# Altium schematic symbol library ET4207_DEMO_Library.SchLib: 30 symbols
Pins are listed as number, name and electrical type; pins without a type are passive.

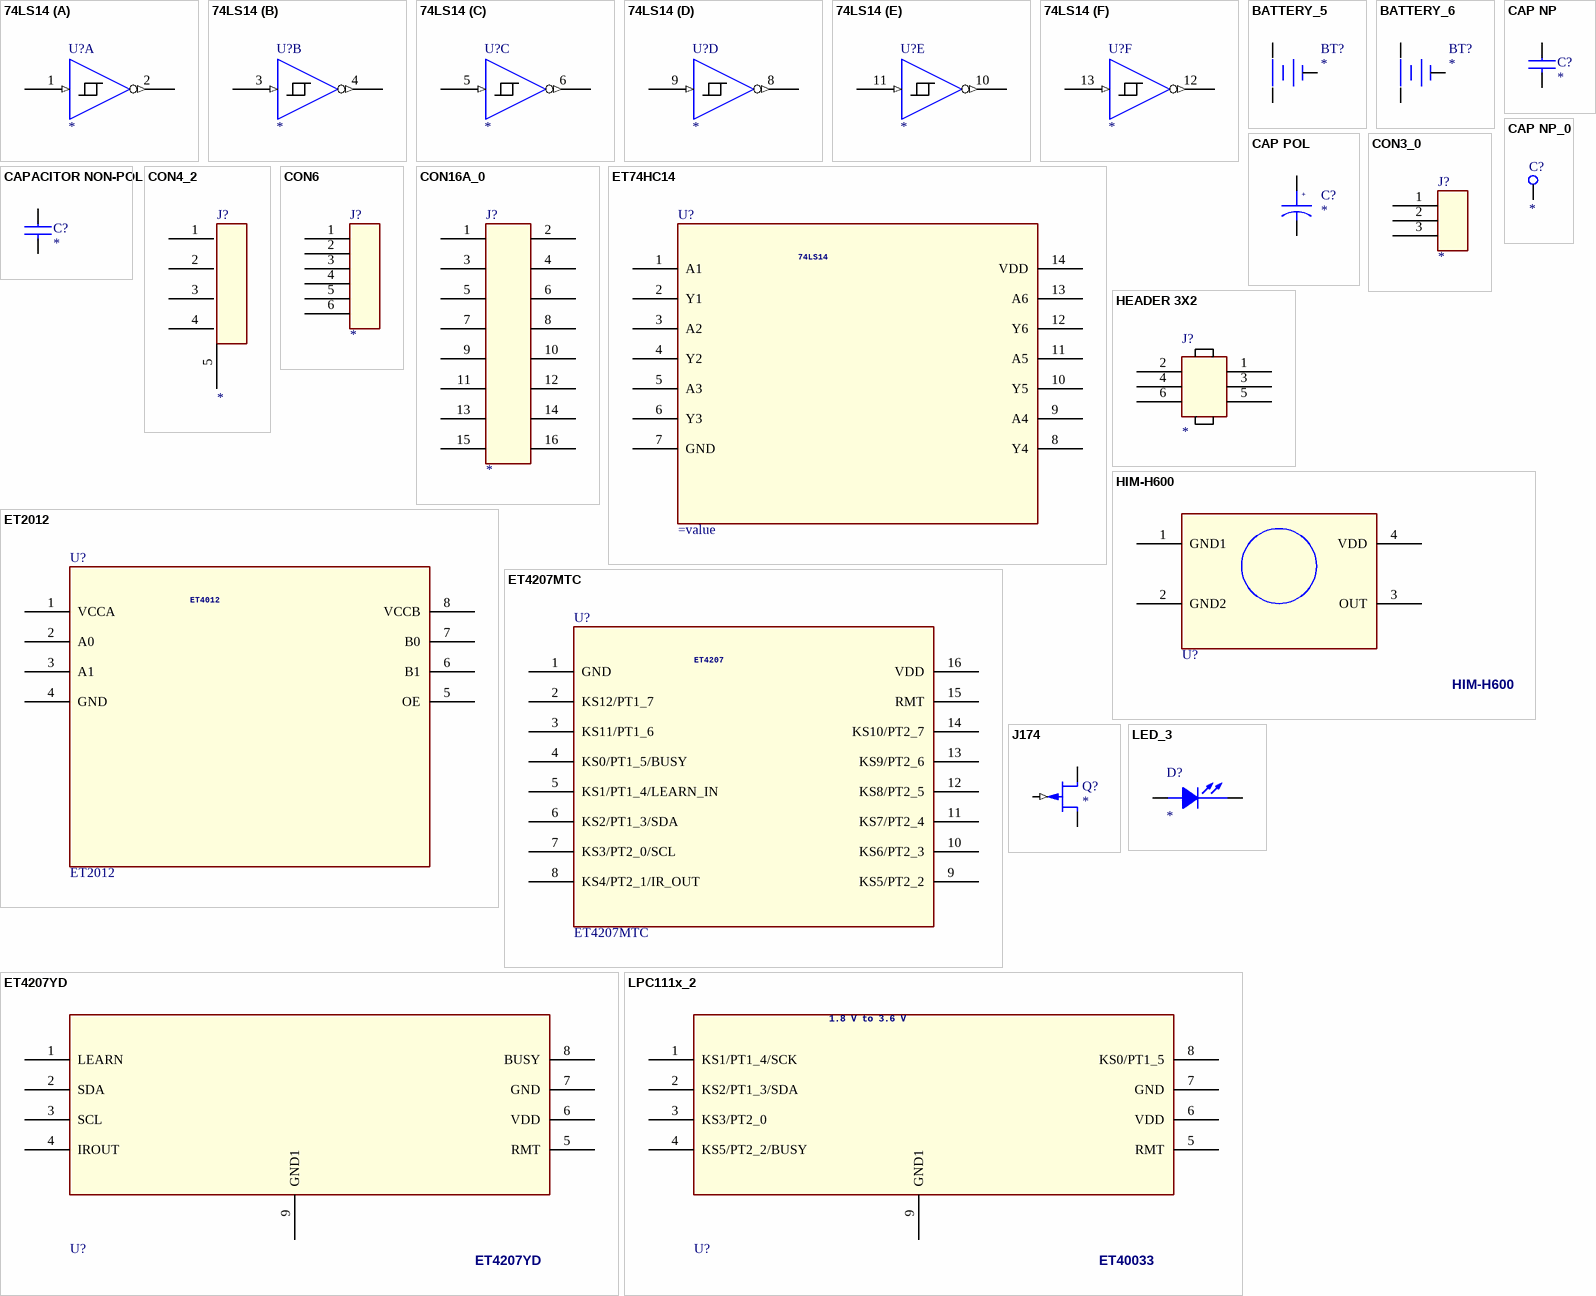
[diagram p0: symbols 74LS14 to LPC111x_2]

## 74LS14
designator U?
part A pins: 1 A (in), 2 Y (out), 7 GND (power) hidden to GND, 14 VCC (power) hidden to VCC
part B pins: 3 A (in), 4 Y (out), 7 GND (power) hidden to GND, 14 VCC (power) hidden to VCC
part C pins: 5 A (in), 6 Y (out), 7 GND (power) hidden to GND, 14 VCC (power) hidden to VCC
part D pins: 7 GND (power) hidden to GND, 8 Y (out), 9 A (in), 14 VCC (power) hidden to VCC
part E pins: 7 GND (power) hidden to GND, 10 Y (out), 11 A (in), 14 VCC (power) hidden to VCC
part F pins: 7 GND (power) hidden to GND, 12 Y (out), 13 A (in), 14 VCC (power) hidden to VCC

## BATTERY_5
designator BT?
pins: 1, 2, 3

## BATTERY_6
designator BT?
pins: 1, 2, 3

## CAP NP
designator C?
pins: 1, 2

## CAP NP_0
designator C?
pins: 1

## CAP POL
designator C?
pins: 1, 2
text: +

## CAPACITOR NON-POL
designator C?
pins: 1, 2

## CON3_0
designator J?
pins: 1 IROUT, 2 GND, 3 VCC

## CON4_2
designator J?
pins: 1, 2, 3, 4, 5

## CON6
designator J?
pins: 1, 2, 3, 4, 5, 6

## CON16A_0
designator J?
pins: 1, 2, 3, 4, 5, 6, 7, 8, 9, 10, 11, 12, 13, 14, 15, 16

## ET74HC14
designator U?
pins: 1 A1, 2 Y1, 3 A2, 4 Y2, 5 A3, 6 Y3, 7 GND, 8 Y4, 9 A4, 10 Y5, 11 A5, 12 Y6, 13 A6, 14 VDD
text: 74LS14

## ET2012
designator U?
pins: 1 VCCA, 2 A0, 3 A1, 4 GND, 5 OE, 6 B1, 7 B0, 8 VCCB
text: ET4012

## ET4207MTC
designator U?
footprint soic-16
pins: 1 GND, 2 KS12/PT1_7, 3 KS11/PT1_6, 4 KS0/PT1_5/BUSY, 5 KS1/PT1_4/LEARN_IN, 6 KS2/PT1_3/SDA, 7 KS3/PT2_0/SCL, 8 KS4/PT2_1/IR_OUT, 9 KS5/PT2_2, 10 KS6/PT2_3, 11 KS7/PT2_4, 12 KS8/PT2_5, 13 KS9/PT2_6, 14 KS10/PT2_7, 15 RMT, 16 VDD
text: ET4207

## ET4207YD
designator U?
footprint QFN-8 (QFN)
pins: 1 LEARN, 2 SDA, 3 SCL, 4 IROUT, 5 RMT, 6 VDD, 7 GND, 8 BUSY, 9 GND1

## HEADER 3X2
designator J?
pins: 1, 2, 3, 4, 5, 6

## HIM-H600
designator U?
pins: 1 GND1, 2 GND2, 3 OUT, 4 VDD

## J174
designator Q?
pins: 1 D, 2 G (in), 3 S

## LED_3
designator D?
pins: 1 ANODE, 2 CATHODE

## LPC111x_2
designator U?, comment ET40033
pins: 1 KS1/PT1_4/SCK, 2 KS2/PT1_3/SDA, 3 KS3/PT2_0, 4 KS5/PT2_2/BUSY, 5 RMT, 6 VDD, 7 GND, 8 KS0/PT1_5, 9 GND1
text: 1.8 V to 3.6 V

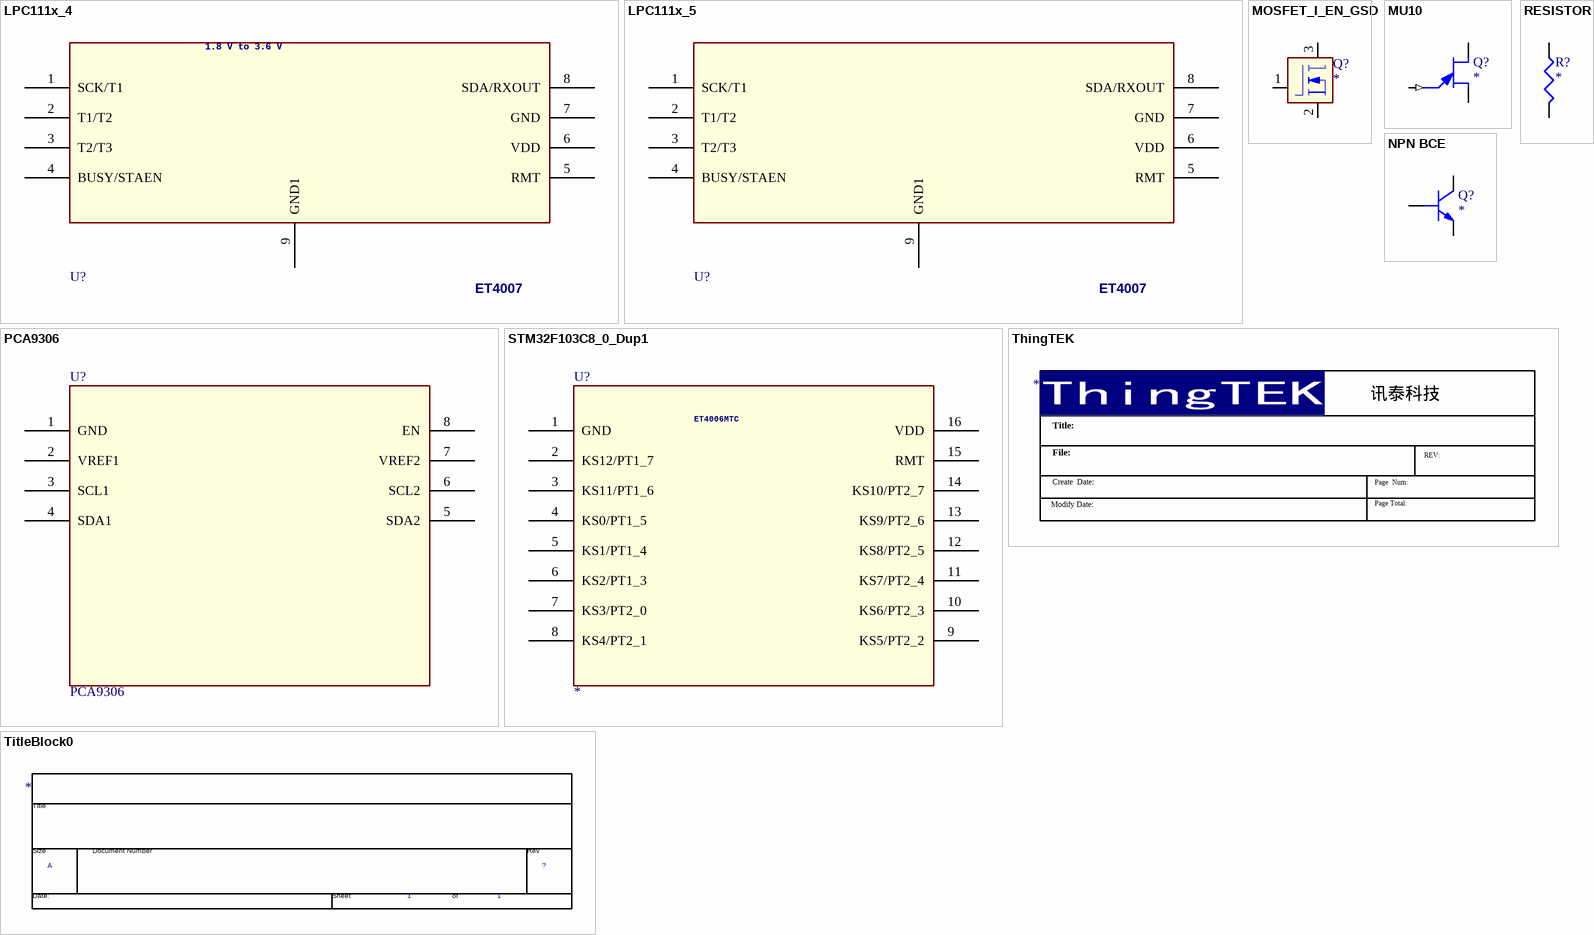
[diagram p1: symbols LPC111x_4 to TitleBlock0]

## LPC111x_4
designator U?, comment ET4007
pins: 1 SCK/T1, 2 T1/T2, 3 T2/T3, 4 BUSY/STAEN, 5 RMT, 6 VDD, 7 GND, 8 SDA/RXOUT, 9 GND1
text: 1.8 V to 3.6 V

## LPC111x_5
designator U?, comment ET4007
pins: 1 SCK/T1, 2 T1/T2, 3 T2/T3, 4 BUSY/STAEN, 5 RMT, 6 VDD, 7 GND, 8 SDA/RXOUT, 9 GND1

## MOSFET_I_EN_GSD
designator Q?
pins: 1 G, 2 S, 3 D

## MU10
designator Q?
pins: 1 BASE1, 2 E (in), 3 BASE2

## NPN BCE
designator Q?
PspiceTemplate: Q^@REFDES %C %B %E
simulation model NPN BCE
pins: 1 B, 2 C, 3 E

## PCA9306
designator U?
footprint TSSOP-8
pins: 1 GND, 2 VREF1, 3 SCL1, 4 SDA1, 5 SDA2, 6 SCL2, 7 VREF2, 8 EN

## RESISTOR
designator R?
pins: 1, 2

## STM32F103C8_0_Dup1
designator U?
pins: 1 GND, 2 KS12/PT1_7, 3 KS11/PT1_6, 4 KS0/PT1_5, 5 KS1/PT1_4, 6 KS2/PT1_3, 7 KS3/PT2_0, 8 KS4/PT2_1, 9 KS5/PT2_2, 10 KS6/PT2_3, 11 KS7/PT2_4, 12 KS8/PT2_5, 13 KS9/PT2_6, 14 KS10/PT2_7, 15 RMT, 16 VDD
text: ET4006MTC

## ThingTEK
designator *  (graphical)
text: 讯泰科技; Title:; File:; REV:; Create  Date:; Page  Num:; Page Total:; Modify Date:

## TitleBlock0
designator *  Page Count: 1  Page Size: A  (graphical)
Page Create Date: March  8, 1995; Page Number: 1; RevCode: ?
text: Title; Size; Document Number; Rev; Date:; Sheet; of